# Altium footprint library PcbLib1.PcbLib: 2 footprints
Each footprint in its own frame and in the unit in brackets; x right, y up, seen from the top. Pads: shape width x height; smd on the part's side, far side on the other; paste and mask are expansions set on the pad; w line width, h text height; cw(c..) or ccw(c..) is an arc to the next point about the centre after c.
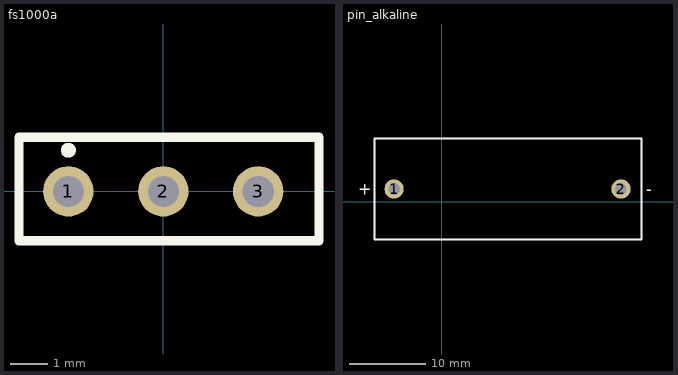
[diagram p0: the footprints below, top view; thin cyan lines are the x and y axes]

## fs1000a [mm]
pads (3):
  round 1.349 hole 0.83: 1(-2.54,0) 2(0,0) 3(2.54,0)
Top Overlay:
  lines w0.2: -2.64,1.1 cw(c-2.54,1.1) -2.44,1.1 cw(c-2.54,1.1) -2.64,1.1
  lines w0.254: -3.861,-1.321 -3.861,1.448 4.166,1.448 4.166,-1.321 -3.861,-1.321
3D body "fs1000a.STEP": height 10.34, standoff -4.29, extent -9.458,-1.27 9.652,20.54

## pin_alkaline [mm]
pads (2):
  round 2.5 hole 1.5: 1(-6.223,1.651) 2(23.368,1.651)
Top Overlay:
  lines w0.254: -8.763,-4.953 26.035,-4.953 26.035,8.255 -8.763,8.255 -8.763,-4.953
  text "-" at 26.67,0.889 h1.52
  text "+" at -10.922,0.889 h1.52
3D body "Battery holder mit Bat.step": height 11.03, standoff -2.1, extent -8.733,-4.947 26.005,8.249